# Altium footprint library 473460001.PcbLib: 1 footprints
Each footprint in its own frame and in the unit in brackets; x right, y up, seen from the top. Pads: shape width x height; smd on the part's side, far side on the other; paste and mask are expansions set on the pad; w line width, h text height; cw(c..) or ccw(c..) is an arc to the next point about the centre after c.
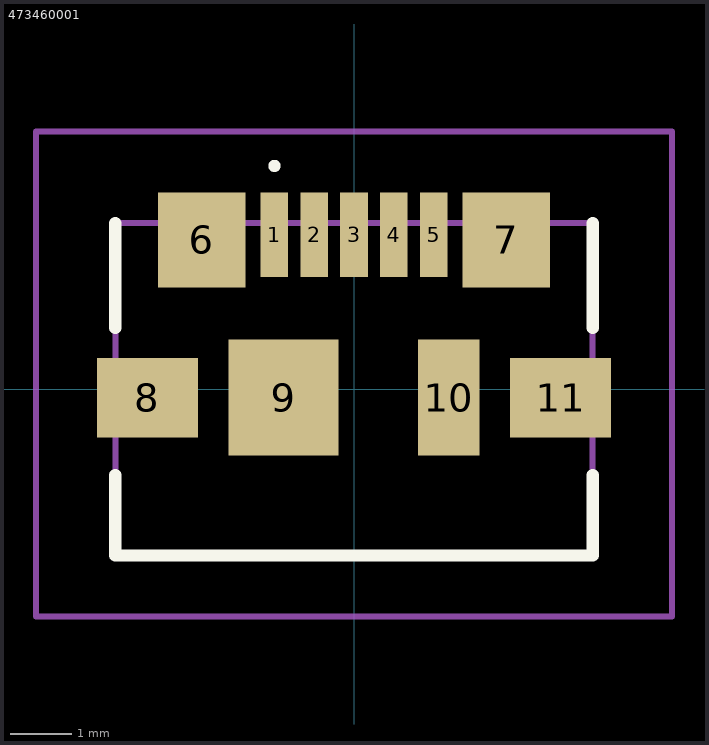
[diagram p0: the footprint, top view; thin cyan lines are the x and y axes]

## 473460001 [mm]
pads (11):
  rect 0.45x1.38 smd: 1(-1.3,2.525) 2(-0.65,2.525) 3(0,2.525) 4(0.65,2.525) 5(1.3,2.525)
  rect 1.425x1.55 smd: 6(-2.487,2.44) 7(2.487,2.44)
  rect 1.65x1.3 smd: 8(-3.375,-0.135) 11(3.375,-0.135)
  rect 1.8x1.9 smd: 9(-1.15,-0.135)
  rect 1x1.9 smd: 10(1.55,-0.135)
Top Overlay:
  lines w0.1: -1.3,3.6 -1.3,3.6 ; -1.3,3.6 ccw(c-1.3,3.65) -1.3,3.7 ; -1.3,3.6 cw(c-1.3,3.65) -1.3,3.7 ; -1.3,3.6 -1.3,3.6 ; -1.3,3.6 ccw(c-1.3,3.65) -1.3,3.7 ; -1.3,3.7 -1.3,3.7
  lines w0.2: -3.9,-1.4 -3.9,-2.715 3.9,-2.715 3.9,-1.4 ; -3.9,1 -3.9,2.715 ; 3.9,1 3.9,2.715
Mechanical 15:
  lines w0.1: -3.9,-2.715 3.9,-2.715 3.9,2.715 -3.9,2.715 -3.9,-2.715
Mechanical 20:
  lines w0.1: -5.2,-3.715 5.2,-3.715 5.2,4.215 -5.2,4.215 -5.2,-3.715